# Altium footprint library S8050_SOT23.PcbLib: 1 footprints
Each footprint in its own frame and in the unit in brackets; x right, y up, seen from the top. Pads: shape width x height; smd on the part's side, far side on the other; paste and mask are expansions set on the pad; w line width, h text height; cw(c..) or ccw(c..) is an arc to the next point about the centre after c.
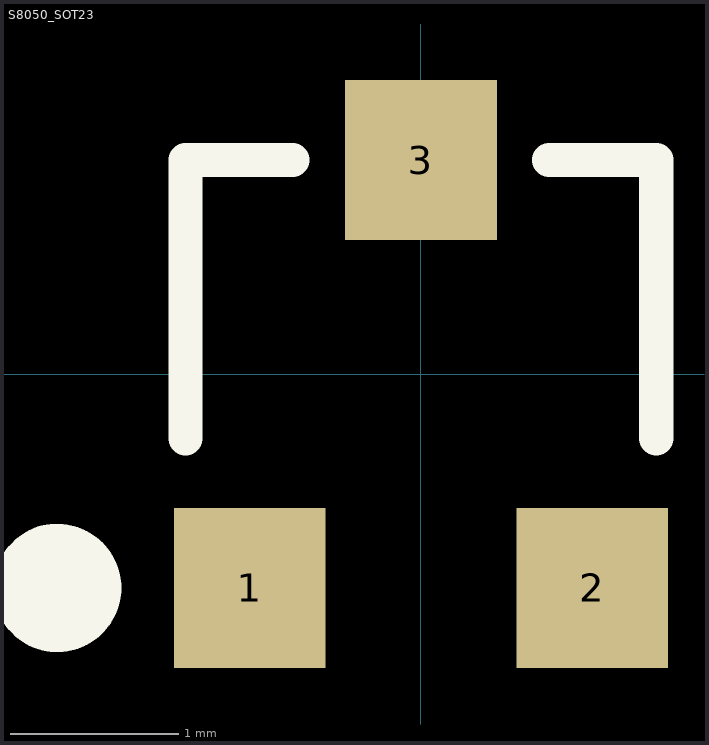
[diagram p0: the footprint, top view; thin cyan lines are the x and y axes]

## S8050_SOT23 [mm] "NPN三极管"
pads (3):
  rect 0.9x0.95 smd: 1(-1.016,-1.27) 2(1.016,-1.27) 3(0,1.27)
Top Overlay:
  circle w0.508: c-2.159,-1.27 r0.127
  lines w0.203: -1.397,-0.381 -1.397,1.27 -0.762,1.27 ; 0.762,1.27 1.397,1.27 1.397,-0.381